# Altium footprint library Resistors.PcbLib: 12 footprints
Each footprint in its own frame and in the unit in brackets; x right, y up, seen from the top. Pads: shape width x height; smd on the part's side, far side on the other; paste and mask are expansions set on the pad; w line width, h text height; cw(c..) or ccw(c..) is an arc to the next point about the centre after c.
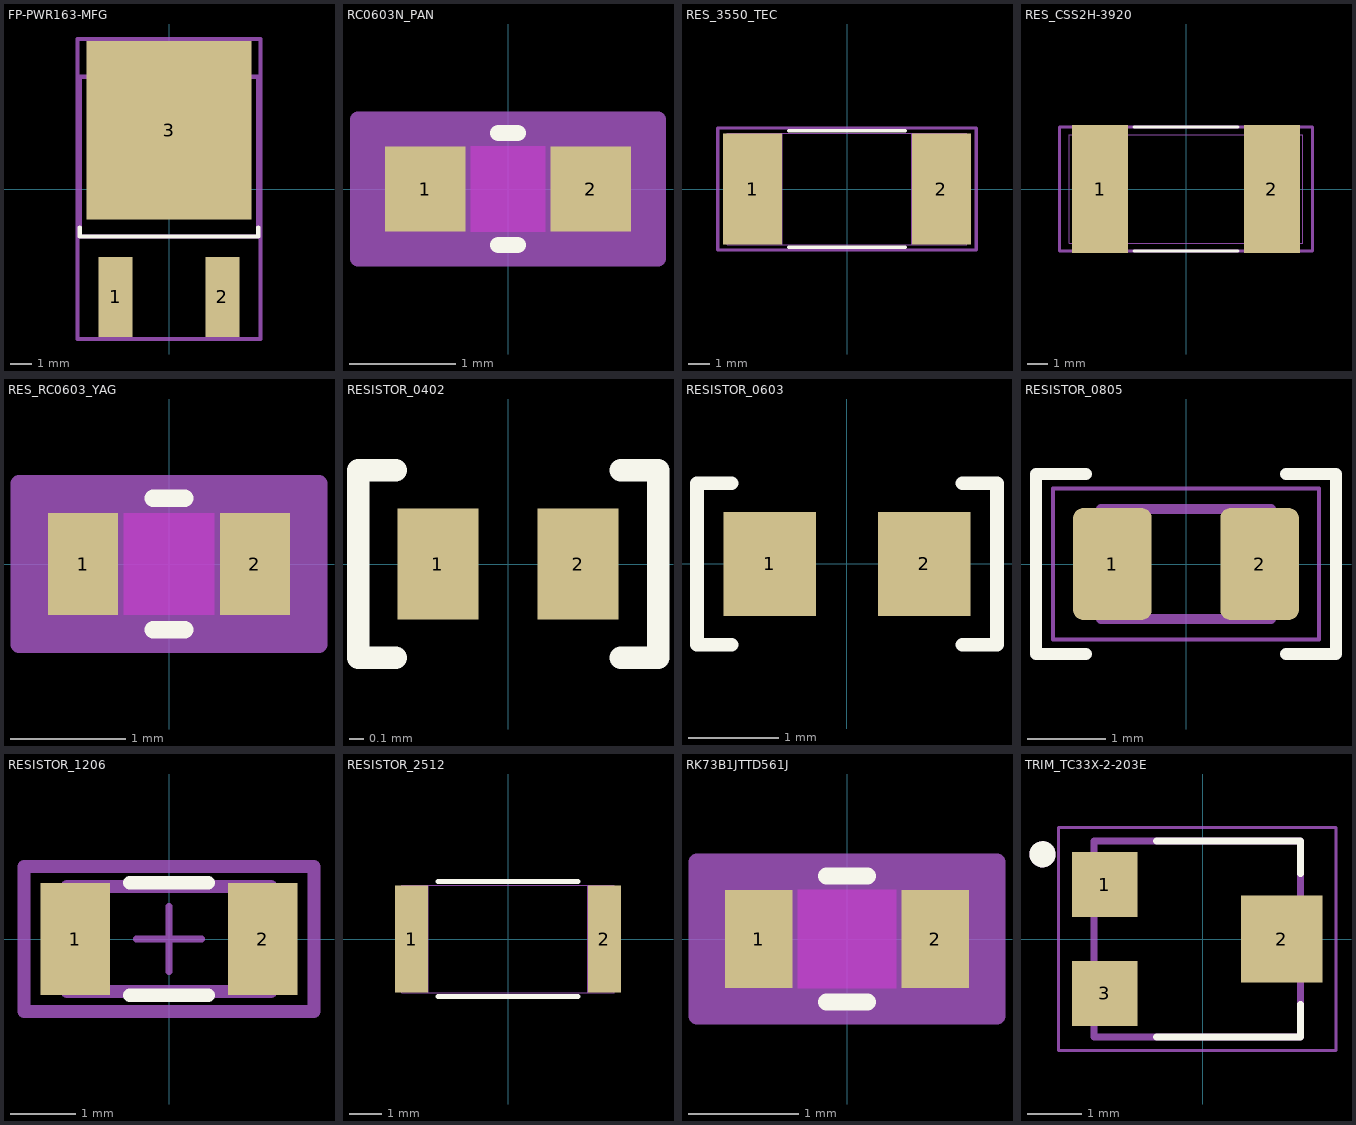
[diagram p0: the footprints below, top view; thin cyan lines are the x and y axes]

## FP-PWR163-MFG [mm]
pads (3):
  rect 1.62x3.81 smd paste+0 mask+0: 1(-2.54,-5.145) 2(2.54,-5.145)
  rect 7.87x8.51 smd paste+0 mask+0: 3(0,2.795)
Top Overlay:
  lines w0.2: -4.255,-1.835 -4.255,-2.265 4.255,-2.265 4.255,-1.835
Top 3D Body:
  lines w0.2: -4.255,-2.265 -4.255,5.355 4.255,5.355 4.255,-2.265 -4.255,-2.265
Top Assembly:
  lines w0.2: -4.355,-7.15 -4.355,7.15 4.355,7.15 4.355,-7.15 -4.355,-7.15
  text ".Designator" at 0,-0.001 h1
Top Courtyard:
  lines w0.2: -4.355,-7.15 -4.355,7.15 4.355,7.15 4.355,-7.15 -4.355,-7.15
Top Component Center:
  lines w0.1: -0.5,0 0.5,0 ; 0,-0.5 0,0.5
3D body "Res_Bourns_Inc_PWR163S-25-12R0F_eec.STEP": height 0.25, standoff 0, extent -4.355,-7.15 4.355,7.15

## RC0603N_PAN [mm]
pads (2):
  rect 0.756x0.8 smd paste+0 mask+0: 1(-0.778,0) 2(0.778,0)
Top Layer keep-out:
  region: -0.349,-0.349 -0.349,0.349 0.349,0.349 0.349,-0.349
Top Overlay:
  lines w0.152: -0.092,-0.527 0.092,-0.527 ; -0.092,0.527 0.092,0.527
Keep-Out Layer:
  region: -0.349,-0.4 -0.349,0.4 0.349,0.4 0.349,-0.4
Mechanical 13:
  lines w0.025: -0.8,-0.4 -0.8,0.4 ; -0.8,-0.4 -0.4,-0.4 -0.4,0.4 -0.8,0.4 ; -0.8,-0.4 0.8,-0.4 ; -0.8,-0.4 -0.8,0.4 ; -0.8,0.4 0.8,0.4 ; 0.8,-0.4 0.4,-0.4 0.4,0.4 0.8,0.4 ; 0.8,-0.4 0.8,0.4 ; 0.8,-0.4 0.8,0.4
Mechanical 15:
  region: 1.41,-0.654 -1.41,-0.654 -1.41,0.654 1.41,0.654
  lines w0.152: -1.41,-0.654 -1.41,0.654 1.41,0.654 1.41,-0.654 -1.41,-0.654
3D body "RC0603N_PAN.step": height 0.71, standoff 0, extent -0.8,-0.4 0.8,0.4

## RES_3550_TEC [mil]
pads (2):
  rect 110x207 smd paste+0 mask+0: 1(-175.5,0) 2(175.5,0)
Top Overlay:
  lines w6: -108.39,-108.5 108.39,-108.5 ; -108.39,108.5 108.39,108.5
Mechanical 13:
  lines w1: -222.5,-103.5 -222.5,103.5 ; -222.5,-103.5 -120.5,-103.5 -120.5,103.5 -222.5,103.5 ; -222.5,-103.5 222.5,-103.5 ; -222.5,-103.5 -222.5,103.5 ; -222.5,103.5 222.5,103.5 ; 222.5,-103.5 120.5,-103.5 120.5,103.5 222.5,103.5 ; 222.5,-103.5 222.5,103.5 ; 222.5,-103.5 222.5,103.5
Mechanical 15:
  lines w6: -240.5,-113.5 -240.5,113.5 240.5,113.5 240.5,-113.5 -240.5,-113.5
3D body "RES_3550_TEC.step": height 47.01, standoff 0, extent -222.48,-103.5 222.48,103.5

## RES_CSS2H-3920 [mm] "Current Sense Resistor 1mOhm 8W"
pads (2):
  rect 2.7x6.2 smd paste+0 mask+0: 1(-4.15,0) 2(4.15,0)
Top Overlay:
  lines w0.152: -2.5,-3 2.5,-3 ; -2.5,3 2.5,3
Mechanical 13:
  lines w0.025: -5.651,-2.629 -5.651,2.629 ; -5.651,-2.629 5.651,-2.629 ; -5.651,-2.629 -3.061,-2.629 -3.061,2.629 -5.651,2.629 ; -5.651,-2.629 -5.651,2.629 ; -5.651,2.629 5.651,2.629 ; 5.651,-2.629 5.651,2.629 ; 5.651,-2.629 5.651,2.629 ; 5.651,-2.629 3.061,-2.629 3.061,2.629 5.651,2.629
Mechanical 15:
  lines w0.152: -6.109,-3 -6.109,3 6.109,3 6.109,-3 -6.109,-3
3D body "CSS2H-3920.stp": height 1, standoff 0.01, extent -5,-2.6 5.045,2.6

## RES_RC0603_YAG [mil]
pads (2):
  rect 24x35 smd paste+0 mask+0: 1(-29.5,0) 2(29.5,0)
Top Layer keep-out:
  region: -15.5,-15.5 -15.5,15.5 15.5,15.5 15.5,-15.5
Top Overlay:
  lines w6: -5.39,-22.5 5.39,-22.5 ; -5.39,22.5 5.39,22.5
Keep-Out Layer:
  region: -15.5,-17.5 -15.5,17.5 15.5,17.5 15.5,-17.5
Mechanical 13:
  lines w1: -33.5,-17.5 -33.5,17.5 ; -33.5,-17.5 33.5,-17.5 ; -33.5,-17.5 -17.5,-17.5 -17.5,17.5 -33.5,17.5 ; -33.5,-17.5 -33.5,17.5 ; -33.5,17.5 33.5,17.5 ; 33.5,-17.5 33.5,17.5 ; 33.5,-17.5 33.5,17.5 ; 33.5,-17.5 17.5,-17.5 17.5,17.5 33.5,17.5
Mechanical 15:
  region: 51.5,-27.5 -51.5,-27.5 -51.5,27.5 51.5,27.5
  lines w6: -51.5,-27.5 51.5,-27.5 51.5,27.5 -51.5,27.5 -51.5,-27.5
3D body "RES_RC0603_YAG.step": height 22.01, standoff 0, extent -33.5,-17.48 33.5,17.48

## RESISTOR_0402 [mm] "Resistor 0402"
pads (2):
  rect 0.55x0.75 smd: 1(-0.475,0) 2(0.475,0)
Top Overlay:
  lines w0.152: -0.762,-0.635 -1.016,-0.635 -1.016,0.635 -0.762,0.635 ; 0.762,-0.635 1.016,-0.635 1.016,0.635 0.762,0.635
3D body "Resistor_0402-d0402h025.step": height 0.25, standoff 0, extent -0.5,-0.25 0.5,0.25

## RESISTOR_0603 [mil] "Resistor 0603"
pads (2):
  rect 40x45 smd: 1(-33.5,0) 2(33.5,0)
Top Overlay:
  lines w6: -50,-35 -65,-35 -65,35 -50,35 ; 50,-35 65,-35 65,35 50,35
3D body "User Library-res0603-1.step": height 15.75, standoff 0, extent -31.49,-15.74 31.5,15.75

## RESISTOR_0805 [mm]
pads (2):
  rrect25% 1x1.42 smd: 1(-0.935,0) 2(0.935,0)
Top Overlay:
  lines w0.152: -1.27,-1.143 -1.905,-1.143 -1.905,1.143 -1.27,1.143 ; 1.27,-1.143 1.905,-1.143 1.905,1.143 1.27,1.143
Mechanical 13:
  lines w0.127: -1.08,-0.7 1.08,-0.7 1.08,0.7 -1.08,0.7 -1.08,-0.7
Mechanical 15:
  lines w0.05: -1.69,-0.96 1.69,-0.96 1.69,0.96 -1.69,0.96 -1.69,-0.96
3D body "RES_ERA6A_0805_PAN.step": height 0.61, standoff 0, extent -1.105,-0.673 1.105,0.673

## RESISTOR_1206 [mm]
pads (2):
  rect 1.058x1.712 smd paste+0 mask+0: 1(-1.427,0) 2(1.427,0)
Top Overlay:
  lines w0.2: -0.598,-0.856 0.598,-0.856 ; -0.598,0.856 0.598,0.856
Top 3D Body:
  lines w0.2: -1.55,-0.8 1.55,-0.8 1.55,0.8 -1.55,0.8 -1.55,-0.8
Top Assembly:
  lines w0.2: -2.206,-1.106 2.206,-1.106 2.206,1.106 -2.206,1.106 -2.206,-1.106
  text ".Designator" at 0,0.188 h1
Top Courtyard:
  lines w0.2: -2.206,-1.106 2.206,-1.106 2.206,1.106 -2.206,1.106 -2.206,-1.106
Top Component Center:
  lines w0.1: -0.5,0 0.5,0 ; 0,-0.5 0,0.5
3D body "Res_YAGEO_RC1206JR-070RL_eec.STEP": height 0.25, standoff 0, extent -2.206,-1.106 2.206,1.106

## RESISTOR_2512 [mil]
pads (2):
  rect 40x130 smd paste+0 mask+0: 1(-117,0) 2(117,0)
Top Overlay:
  lines w6: -84.89,-70 84.89,-70 ; -84.89,70 84.89,70
Mechanical 13:
  lines w1: -129,-65 -129,65 ; -129,-65 129,-65 ; -129,-65 -97,-65 -97,65 -129,65 ; -129,-65 -129,65 ; -129,65 129,65 ; 129,-65 129,65 ; 129,-65 129,65 ; 129,-65 97,-65 97,65 129,65
3D body "STA_CSRN2512_STP.step": height 27.99, standoff 0, extent -129.02,-65 129.02,65

## RK73B1JTTD561J [mil]
pads (2):
  rect 24x35 smd paste+0 mask+0: 1(-31.5,0) 2(31.5,0)
Top Layer keep-out:
  region: -17.5,-15.5 -17.5,15.5 17.5,15.5 17.5,-15.5
Top Overlay:
  lines w6: -7.39,-22.5 7.39,-22.5 ; -7.39,22.5 7.39,22.5
Keep-Out Layer:
  region: -17.5,-17.5 -17.5,17.5 17.5,17.5 17.5,-17.5
Mechanical 13:
  lines w1: -35.5,-17.5 -35.5,17.5 ; -35.5,-17.5 35.5,-17.5 ; -35.5,-17.5 -19.5,-17.5 -19.5,17.5 -35.5,17.5 ; -35.5,-17.5 -35.5,17.5 ; -35.5,17.5 35.5,17.5 ; 35.5,-17.5 35.5,17.5 ; 35.5,-17.5 35.5,17.5 ; 35.5,-17.5 19.5,-17.5 19.5,17.5 35.5,17.5
Mechanical 15:
  region: 53.5,-27.5 -53.5,-27.5 -53.5,27.5 53.5,27.5
  lines w6: -53.5,-27.5 53.5,-27.5 53.5,27.5 -53.5,27.5 -53.5,-27.5
3D body "RES_RK73B_1J_KOA.step": height 22.01, standoff 0, extent -35.51,-17.48 35.51,17.48

## TRIM_TC33X-2-203E [mm]
pads (3):
  rect 1.2x1.2 smd: 1(-1.8,1) 3(-1.8,-1)
  rect 1.5x1.6 smd: 2(1.45,0)
Top Overlay:
  circle w0.24: c-2.946,1.558 r0.12
  lines w0.127: -0.85,-1.8 1.8,-1.8 1.8,-1.2 ; -0.85,1.8 1.8,1.8 1.8,1.2
Mechanical 13:
  circle w0.24: c-2.946,1.558 r0.12
  lines w0.127: -2,-1.8 -2,1.8 1.8,1.8 1.8,-1.8 -2,-1.8
Mechanical 15:
  lines w0.05: -2.65,-2.05 -2.65,2.05 2.45,2.05 2.45,-2.05 -2.65,-2.05
3D body "step_temp.STEP": height 1.1, standoff -0.1, extent -1.9,-1.5 1.9,1.5